# EAGLE library part NRF51822 (library NRF51)
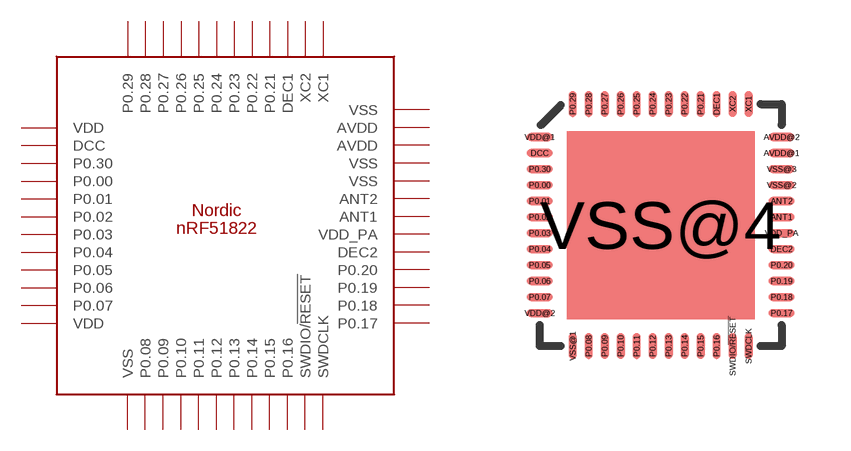
[diagram p0: symbol with the pads of NRF51822; footprint NRF51822]

Designator prefix U

## NRF51822  [NRF51822]
ANT1  ANT1
ANT2  ANT2
AVDD@1  AVDD
AVDD@2  AVDD
DCC  DCC
DEC1  DEC1
DEC2  DEC2
P0.00  P0.00
P0.01  P0.01
P0.02  P0.02
P0.03  P0.03
P0.04  P0.04
P0.05  P0.05
P0.06  P0.06
P0.07  P0.07
P0.08  P0.08
P0.09  P0.09
P0.10  P0.10
P0.11  P0.11
P0.12  P0.12
P0.13  P0.13
P0.14  P0.14
P0.15  P0.15
P0.16  P0.16
P0.17  P0.17
P0.18  P0.18
P0.19  P0.19
P0.20  P0.20
P0.21  P0.21
P0.22  P0.22
P0.23  P0.23
P0.24  P0.24
P0.25  P0.25
P0.26  P0.26
P0.27  P0.27
P0.28  P0.28
P0.29  P0.29
P0.30  P0.30
SWDCLK  SWDCLK
SWDIO/!RESET  SWDIO/!RESET
VDD@1  VDD
VDD@2  VDD
VDD_PA  VDD_PA
VSS@1  VSS
VSS@2  VSS
VSS@3  VSS
VSS@4  VSS
XC1  XC1
XC2  XC2

## Footprint NRF51822 (pad centres in mm)
smd 0.65 x 0.2: ANT1 3.025,0.2; ANT2 3.025,0.6; AVDD@1 3.025,1.8; AVDD@2 3.025,2.2; DCC -3.025,1.8; DEC2 3.025,-0.6; P0.00 -3.025,1; P0.01 -3.025,0.6; P0.02 -3.025,0.2; P0.03 -3.025,-0.2; P0.04 -3.025,-0.6; P0.05 -3.025,-1; P0.06 -3.025,-1.4; P0.07 -3.025,-1.8; P0.17 3.025,-2.2; P0.18 3.025,-1.8; P0.19 3.025,-1.4; P0.20 3.025,-1; P0.30 -3.025,1.4; VDD@1 -3.025,2.2; VDD@2 -3.025,-2.2; VDD_PA 3.025,-0.2; VSS@2 3.025,1; VSS@3 3.025,1.4
smd 0.2 x 0.65: DEC1 1.4,3.025; P0.08 -1.8,-3.025; P0.09 -1.4,-3.025; P0.10 -1,-3.025; P0.11 -0.6,-3.025; P0.12 -0.2,-3.025; P0.13 0.2,-3.025; P0.14 0.6,-3.025; P0.15 1,-3.025; P0.16 1.4,-3.025; P0.21 1,3.025; P0.22 0.6,3.025; P0.23 0.2,3.025; P0.24 -0.2,3.025; P0.25 -0.6,3.025; P0.26 -1,3.025; P0.27 -1.4,3.025; P0.28 -1.8,3.025; P0.29 -2.2,3.025; SWDCLK 2.2,-3.025; SWDIO/!RESET 1.8,-3.025; VSS@1 -2.2,-3.025; XC1 2.2,3.025; XC2 1.8,3.025
smd 4.7 x 4.7: VSS@4 0,0